# Altium footprint library 18650_2s.PcbLib: 1 footprints
Each footprint in its own frame and in the unit in brackets; x right, y up, seen from the top. Pads: shape width x height; smd on the part's side, far side on the other; paste and mask are expansions set on the pad; w line width, h text height; cw(c..) or ccw(c..) is an arc to the next point about the centre after c.
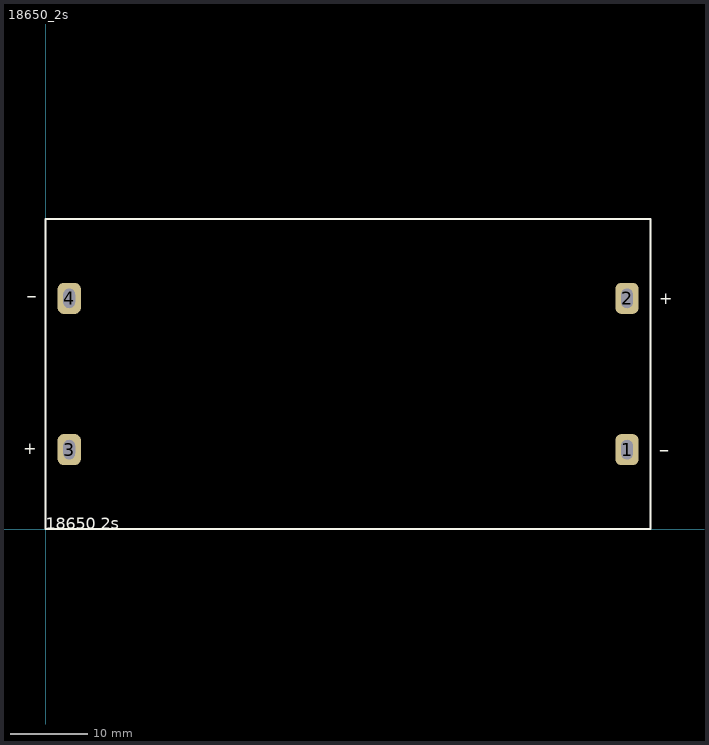
[diagram p0: the footprint, top view; thin cyan lines are the x and y axes]

## 18650_2s [mm]
pads (4):
  rrect50% 3x4 hole 1.5 slot 2.5 at 90 deg: 1(75.184,10.287) 2(75.184,29.845) 3(3.048,10.287) 4(3.048,29.845)
Top Overlay:
  lines w0.254: 0,0 78.232,0 78.232,40.132 0,40.132 0,0
  text "_" at -1.27,29.591 h1.52
  text "+" at -1.143,11.049 h1.52
  text "18650 2s" at 0,0 h1.52
  text "_" at 79.502,10.541 h1.52
  text "+" at 79.375,29.083 h1.52
3D body "Hold_18650-2p.stp": height 26.58, standoff 1.09, extent 0.116,0 78.116,40